# Altium schematic symbol library Mount_Antenna.SchLib: 21 symbols
Pins are listed as number, name and electrical type; pins without a type are passive.

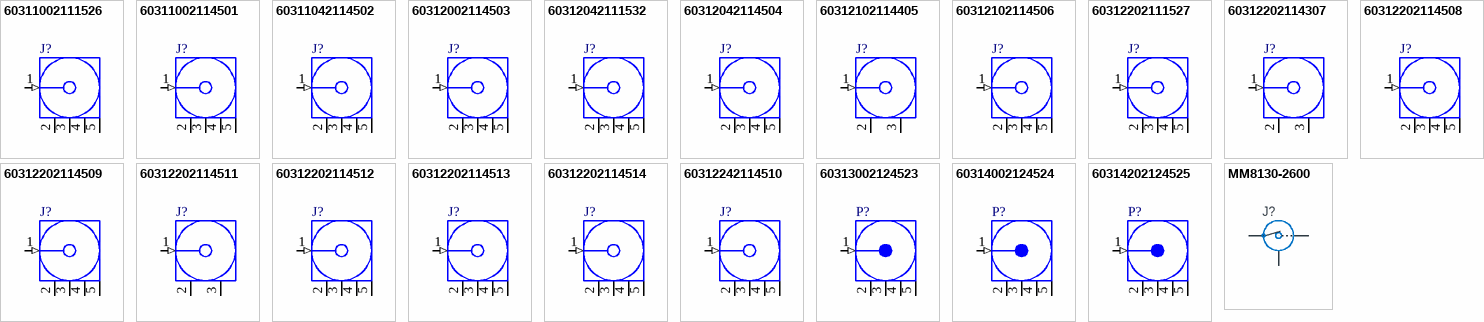
[diagram p0: symbols 60311002111526 to MM8130-2600]

## 60311002111526
designator J?
WR-SMA Connector, PCB THT Jack, Right Angle; Manufacturer Part Number: 60311002111526; Manufacturer: Wurth Elektronik; Impedance: 50Ohm; Connector Type: SMA; Frequency Range: DC~6GHz; Interface: MIL-STD-348; Center Contact Diameter: 1.27mm; Component Status: Active; ComponentLink1Description: Manufacturer; ComponentLink1URL: http://www.we-online.de; ComponentLink2Description: Datasheet; ComponentLink2URL: https://www.we-online.com/catalog/datasheet/60311002111526.pdf; Published Date: June 2020; Operating Temperature: -65 to +165degC; Gender: Jack; Packaging: Tray; Mounting Technology: THT; Orientation Type: Right Angle; Component Class: Connectors; Supplier 1: Mouser; Supplier 2: Digi-Key; Supplier 1 SN: N/A; Supplier 1 URL: N/A; Supplier 2 SN: N/A; Supplier 2 URL: N/A
footprint 60311002111526
pins: 1 Signal (in) "Signal Pin", 2 GND (power), 3 GND (power), 4 GND (power), 5 GND (power)

## 60311002114501
designator J?
WR-SMA Connector, PCB THT Jack, Right Angle, with Anti-Torque Thread; Manufacturer Part Number: 60311002114501; Manufacturer: Wurth Elektronik; Impedance: 50Ohm; Connector Type: SMA; Frequency Range: DC~18GHz; Interface: MIL-STD-348; Center Contact Diameter: 1.27mm; Component Status: Active; ComponentLink1Description: Manufacturer; ComponentLink1URL: http://www.we-online.de; ComponentLink2Description: Datasheet; ComponentLink2URL: https://www.we-online.com/catalog/datasheet/60311002114501.pdf; Published Date: June 2020; Operating Temperature: -65 to +165degC; Gender: Jack; Packaging: Tray; Mounting Technology: THT; Orientation Type: Right Angle; Component Class: Connectors; Supplier 1: Mouser; Supplier 1 URL: https://www.mouser.vn/ProductDetail/Wurth-Elektronik/60311002114501?qs=3jNSNtuqJTKCM9Xl9ihRQg%3D%3D; Supplier 2: Digi-Key; Supplier 2 URL: https://www.digikey.com/en/products/detail/johanson-technology-inc/2450ad18a6050002e/16034408; Supplier 1 SN: 710-60311002114501; Supplier 2 SN: 732-13833-ND
footprint 60311002114501
pins: 1 Signal (in) "Signal Pin", 2 GND (power), 3 GND (power), 4 GND (power), 5 GND (power)

## 60311042114502
designator J?
WR-SMA Connector, PCB THT Jack, Right Angle, Rear Mount Bulkhead; Manufacturer Part Number: 60311042114502; Manufacturer: Wurth Elektronik; Impedance: 50Ohm; Connector Type: SMA; Frequency Range: DC~12.4GHz; Interface: MIL-STD-348; Center Contact Diameter: 1.27mm; Component Status: Active; ComponentLink1Description: Manufacturer; ComponentLink1URL: http://www.we-online.de; ComponentLink2Description: Datasheet; ComponentLink2URL: https://www.we-online.com/catalog/datasheet/60311042114502.pdf; Published Date: June 2020; Operating Temperature: -65 to +165degC; Gender: Jack; Packaging: Tray; Mounting Technology: THT; Orientation Type: Right Angle; Component Class: Connectors; Supplier 1: Mouser; Supplier 1 URL: https://www.mouser.vn/ProductDetail/Wurth-Elektronik/60311042114502?qs=3jNSNtuqJTKkU1QzLc%2FggQ%3D%3D; Supplier 2: Digi-Key; Supplier 2 URL: https://www.digikey.com/en/products/detail/w%C3%BCrth-elektronik/60311042114502/10106988; Supplier 1 SN: 710-60311042114502; Supplier 2 SN: 732-13834-ND
footprint 60311042114502
pins: 1 Signal (in) "Signal Pin", 2 GND (power), 3 GND (power), 4 GND (power), 5 GND (power)

## 60312002114503
designator J?
WR-SMA Connector, PCB THT Jack, Straight; Manufacturer Part Number: 60312002114503; Manufacturer: Wurth Elektronik; Impedance: 50Ohm; Connector Type: SMA; Frequency Range: DC~18GHz; Interface: MIL-STD-348; Center Contact Diameter: 1.27mm; Component Status: Active; ComponentLink1Description: Manufacturer; ComponentLink1URL: http://www.we-online.de; ComponentLink2Description: Datasheet; ComponentLink2URL: https://www.we-online.com/catalog/datasheet/60312002114503.pdf; Published Date: June 2020; Operating Temperature: -65 to +165degC; Gender: Jack; Packaging: Tray; Mounting Technology: THT; Orientation Type: Straight; Component Class: Connectors; Supplier 1: Mouser; Supplier 1 URL: https://www.mouser.vn/ProductDetail/Wurth-Elektronik/60312002114503?qs=3jNSNtuqJTL%2FGpZA1FAOxw%3D%3D; Supplier 2: Digi-Key; Supplier 2 URL: https://www.digikey.com/en/products/detail/w%C3%BCrth-elektronik/60312002114503/10106989; Supplier 1 SN: 710-60312002114503; Supplier 2 SN: 732-13835-ND
footprint 60312002114503
pins: 1 Signal (in) "Signal Pin", 2 GND (power), 3 GND (power), 4 GND (power), 5 GND (power)

## 60312042111532
designator J?
WR-SMA Connector, PCB THT Jack, Straight, Rear Mount Bulkhead 11mm; Manufacturer Part Number: 60312042111532; Manufacturer: Wurth Elektronik; Impedance: 50Ohm; Connector Type: SMA; Frequency Range: DC~6GHz; Interface: MIL-STD-348; Center Contact Diameter: 1.27mm; Component Status: Active; ComponentLink1Description: Manufacturer; ComponentLink1URL: http://www.we-online.de; ComponentLink2Description: Datasheet; ComponentLink2URL: https://www.we-online.com/catalog/datasheet/60312042111532.pdf; Published Date: June 2020; Operating Temperature: -65 to +165degC; Gender: Jack; Packaging: Tray; Mounting Technology: THT; Orientation Type: Straight; Component Class: Connectors; Supplier 1: Mouser; Supplier 1 URL: https://www.mouser.vn/ProductDetail/Wurth-Elektronik/60312042111532?qs=sPbYRqrBIVm%2Fn3Wj9RlOYA%3D%3D; Supplier 2: Digi-Key; Supplier 2 URL: https://www.digikey.com/en/products/detail/w%C3%BCrth-elektronik/60312042111532/12726543; Supplier 1 SN: 710-60312042111532; Supplier 2 SN: 732-60312042111532-ND
footprint 60312042111532 (Footprint not found)
pins: 1 Signal (in) "Signal Pin", 2 GND (power), 3 GND (power), 4 GND (power), 5 GND (power)

## 60312042114504
designator J?
WR-SMA Connector, PCB THT Jack, Straight, Rear Mount Bulkhead; Manufacturer Part Number: 60312042114504; Manufacturer: Wurth Elektronik; Impedance: 50Ohm; Connector Type: SMA; Frequency Range: DC~18GHz; Interface: MIL-STD-348; Center Contact Diameter: 1.27mm; Component Status: Active; ComponentLink1Description: Manufacturer; ComponentLink1URL: http://www.we-online.de; ComponentLink2Description: Datasheet; ComponentLink2URL: https://www.we-online.com/catalog/datasheet/60312042114504.pdf; Published Date: June 2020; Operating Temperature: -65 to +165degC; Gender: Jack; Packaging: Tray; Mounting Technology: THT; Orientation Type: Straight; Component Class: Connectors; Supplier 1: Mouser; Supplier 1 URL: https://www.mouser.vn/ProductDetail/Wurth-Elektronik/60312042114504?qs=3jNSNtuqJTJQUrgN5kAX4g%3D%3D; Supplier 2: Digi-Key; Supplier 2 URL: https://www.digikey.com/en/products/detail/w%C3%BCrth-elektronik/60312042114504/10106990; Supplier 1 SN: 710-60312042114504; Supplier 2 SN: 732-13836-ND
footprint 60312042114504
pins: 1 Signal (in) "Signal Pin", 2 GND (power), 3 GND (power), 4 GND (power), 5 GND (power)

## 60312102114405
designator J?
WR-SMA Connector, PCB SMT Jack, Straight; Manufacturer Part Number: 60312102114405; Manufacturer: Wurth Elektronik; Impedance: 50Ohm; Connector Type: SMA; Frequency Range: DC~18GHz; Interface: MIL-STD-348; Center Contact Diameter: 1.27mm; Component Status: Active; ComponentLink1Description: Manufacturer; ComponentLink1URL: http://www.we-online.de; ComponentLink2Description: Datasheet; ComponentLink2URL: https://www.we-online.com/catalog/datasheet/60312102114405.pdf; Published Date: June 2020; Operating Temperature: -65 to +165degC; Gender: Jack; Packaging: Tape and Reel; Mounting Technology: SMT; Orientation Type: Straight; Component Class: Connectors; Supplier 1: Mouser; Supplier 1 URL: https://www.mouser.vn/ProductDetail/Wurth-Elektronik/60312102114405?qs=3jNSNtuqJTIiYSFyz6jY1Q%3D%3D; Supplier 2: Digi-Key; Supplier 2 URL: https://www.digikey.com/en/products/detail/w%C3%BCrth-elektronik/60312102114405/10106991; Supplier 1 SN: 710-60312102114405; Supplier 2 SN: 732-13837-2-ND
footprint 60312102114405
pins: 1 Signal (in) "Signal Pin", 2 GND (power), 3 GND (power)

## 60312102114506
designator J?
WR-SMA Connector, PCB THR Jack, Straight; Manufacturer Part Number: 60312102114506; Manufacturer: Wurth Elektronik; Impedance: 50Ohm; Connector Type: SMA; Frequency Range: DC~18GHz; Interface: MIL-STD-348; Center Contact Diameter: 1.27mm; Component Status: Active; ComponentLink1Description: Manufacturer; ComponentLink1URL: http://www.we-online.de; ComponentLink2Description: Datasheet; ComponentLink2URL: https://www.we-online.com/catalog/datasheet/60312102114506.pdf; Published Date: June 2020; Operating Temperature: -65 to +165degC; Gender: Jack; Packaging: Tray; Mounting Technology: THR; Orientation Type: Straight; Component Class: Connectors; Supplier 1: Mouser; Supplier 1 URL: https://www.mouser.vn/ProductDetail/Wurth-Elektronik/60312102114506?qs=3jNSNtuqJTLU48W1WhewmQ%3D%3D; Supplier 2: Digi-Key; Supplier 2 URL: https://www.digikey.com/en/products/detail/w%C3%BCrth-elektronik/60312102114506/10106992; Supplier 1 SN: 710-60312102114506; Supplier 2 SN: 732-13838-ND
footprint 60312102114506
pins: 1 Signal (in) "Signal Pin", 2 GND (power), 3 GND (power), 4 GND (power), 5 GND (power)

## 60312202111527
designator J?
WR-SMA Connector, PCB End Launch Jack, Straight, 6.35SQ Flange Round Post for PCB 1.6mm; Manufacturer Part Number: 60312202111527; Manufacturer: Wurth Elektronik; Impedance: 50Ohm; Connector Type: SMA; Frequency Range: DC~18GHz; Interface: MIL-STD-348; Center Contact Diameter: 0.76mm; Component Status: Active; ComponentLink1Description: Manufacturer; ComponentLink1URL: http://www.we-online.de; ComponentLink2Description: Datasheet; ComponentLink2URL: https://www.we-online.com/catalog/datasheet/60312202111527.pdf; Published Date: June 2020; Operating Temperature: -65 to +165degC; Gender: Jack; Packaging: Tray; Mounting Technology: End Launch; Orientation Type: Straight; Component Class: Connectors; Supplier 1: Mouser; Supplier 1 URL: N/A; Supplier 2: Digi-Key; Supplier 2 URL: N/A; Supplier 1 SN: N/A; Supplier 2 SN: N/A
footprint 60312202111527
pins: 1 Signal (in) "Signal Pin", 2 GND (power), 3 GND (power), 4 GND (power), 5 GND (power)

## 60312202114307
designator J?
WR-SMA Connector, PCB End Launch Jack, Straight, Edge Card for PCB 1.6mm Max.; Manufacturer Part Number: 60312202114307; Manufacturer: Wurth Elektronik; Impedance: 50Ohm; Connector Type: SMA; Frequency Range: DC~18GHz; Interface: MIL-STD-348; Center Contact Diameter: 0.76mm; Component Status: Active; ComponentLink1Description: Manufacturer; ComponentLink1URL: http://www.we-online.de; ComponentLink2Description: Datasheet; ComponentLink2URL: https://www.we-online.com/catalog/datasheet/60312202114307.pdf; Published Date: June 2020; Operating Temperature: -65 to +165degC; Gender: Jack; Packaging: Tape and Reel; Mounting Technology: End Launch; Orientation Type: Straight; Component Class: Connectors; Supplier 1: Mouser; Supplier 1 URL: https://www.mouser.vn/ProductDetail/Wurth-Elektronik/60312202114307?qs=3jNSNtuqJTLA%252Byi%2FUsRU8Q%3D%3D; Supplier 2: Digi-Key; Supplier 2 URL: https://www.digikey.com/en/products/detail/w%C3%BCrth-elektronik/60312202114307/10106993; Supplier 1 SN: 710-60312202114307; Supplier 2 SN: 732-13839-2-ND
footprint 60312202114307
pins: 1 Signal (in) "Signal Pin", 2 GND (power), 3 GND (power)

## 60312202114508
designator J?
WR-SMA Connector, PCB End Launch Jack, Straight, 6.35SQ Flange Round Post for PCB 1.1mm; Manufacturer Part Number: 60312202114508; Manufacturer: Wurth Elektronik; Impedance: 50Ohm; Connector Type: SMA; Frequency Range: DC~18GHz; Interface: MIL-STD-348; Center Contact Diameter: 0.76mm; Component Status: Active; ComponentLink1Description: Manufacturer; ComponentLink1URL: http://www.we-online.de; ComponentLink2Description: Datasheet; ComponentLink2URL: https://www.we-online.com/catalog/datasheet/60312202114508.pdf; Published Date: June 2020; Operating Temperature: -65 to +165degC; Gender: Jack; Packaging: Tray; Mounting Technology: End Launch; Orientation Type: Straight; Component Class: Connectors; Supplier 1: Mouser; Supplier 1 URL: https://www.mouser.vn/ProductDetail/Wurth-Elektronik/60312202114508?qs=3jNSNtuqJTKmTRvdRk2WHQ%3D%3D; Supplier 2: Digi-Key; Supplier 2 URL: https://www.digikey.com/en/products/detail/w%C3%BCrth-elektronik/60312202114508/10106994; Supplier 1 SN: 710-60312202114508; Supplier 2 SN: 732-13840-ND
footprint 60312202114508
pins: 1 Signal (in) "Signal Pin", 2 GND (power), 3 GND (power), 4 GND (power), 5 GND (power)

## 60312202114509
designator J?
WR-SMA Connector, PCB End Launch Jack, Straight, Round Post for PCB 1.6mm; Manufacturer Part Number: 60312202114509; Manufacturer: Wurth Elektronik; Impedance: 50Ohm; Connector Type: SMA; Frequency Range: DC~18GHz; Interface: MIL-STD-348; Center Contact Diameter: 0.76mm; Component Status: Active; ComponentLink1Description: Manufacturer; ComponentLink1URL: http://www.we-online.de; ComponentLink2Description: Datasheet; ComponentLink2URL: https://www.we-online.com/catalog/datasheet/60312202114509.pdf; Published Date: June 2020; Operating Temperature: -65 to +165degC; Gender: Jack; Packaging: Tray; Mounting Technology: End Launch; Orientation Type: Straight; Component Class: Connectors; Supplier 1: Mouser; Supplier 1 URL: https://www.mouser.vn/ProductDetail/Wurth-Elektronik/60312202114509?qs=3jNSNtuqJTJz2JWKi7lcpA%3D%3D; Supplier 2: Digi-Key; Supplier 2 URL: https://www.digikey.com/en/products/detail/w%C3%BCrth-elektronik/60312202114509/10106995; Supplier 1 SN: 710-60312202114509; Supplier 2 SN: 732-13841-ND
footprint 60312202114509
pins: 1 Signal (in) "Signal Pin", 2 GND (power), 3 GND (power), 4 GND (power), 5 GND (power)

## 60312202114511
designator J?
WR-SMA Connector, PCB End Launch Jack, Straight, Flat Tab with THT Grounding Pins for PCB 2.8mm Max.; Manufacturer Part Number: 60312202114511; Manufacturer: Wurth Elektronik; Impedance: 50Ohm; Connector Type: SMA; Frequency Range: DC~18GHz; Interface: MIL-STD-348; Center Contact Diameter: 0.51 WIDE x 0.25 THK; Component Status: Active; ComponentLink1Description: Manufacturer; ComponentLink1URL: http://www.we-online.de; ComponentLink2Description: Datasheet; ComponentLink2URL: https://www.we-online.com/catalog/datasheet/60312202114511.pdf; Published Date: June 2020; Operating Temperature: -65 to +165degC; Gender: Jack; Packaging: Tray; Mounting Technology: End Launch; Orientation Type: Straight; Component Class: Connectors; Supplier 1: Mouser; Supplier 1 URL: https://www.mouser.vn/ProductDetail/Wurth-Elektronik/60312202114511?qs=3jNSNtuqJTLKiSO7iJqkqg%3D%3D; Supplier 2: Digi-Key; Supplier 2 URL: https://www.digikey.com/en/products/detail/w%C3%BCrth-elektronik/60312202114511/10106996; Supplier 1 SN: 710-60312202114511; Supplier 2 SN: 732-13842-ND
footprint 60312202114511
pins: 1 Signal (in) "Signal Pin", 2 GND (power), 3 GND (power)

## 60312202114512
designator J?
WR-SMA Connector, PCB End Launch Jack, Straight, Flat Tab for 1.1mm; Manufacturer Part Number: 60312202114512; Manufacturer: Wurth Elektronik; Impedance: 50Ohm; Connector Type: SMA; Frequency Range: DC~18GHz; Interface: MIL-STD-348; Center Contact Diameter: 0.51 WIDE x 0.25 THK; Component Status: Active; ComponentLink1Description: Manufacturer; ComponentLink1URL: http://www.we-online.de; ComponentLink2Description: Datasheet; ComponentLink2URL: https://www.we-online.com/catalog/datasheet/60312202114512.pdf; Published Date: June 2020; Operating Temperature: -65 to +165degC; Gender: Jack; Packaging: Tray; Mounting Technology: End Launch; Orientation Type: Straight; Component Class: Connectors; Supplier 1: Mouser; Supplier 1 URL: https://www.mouser.vn/ProductDetail/Wurth-Elektronik/60312202114512?qs=3jNSNtuqJTLnrLNuFy3roA%3D%3D; Supplier 2: Digi-Key; Supplier 2 URL: https://www.digikey.com/en/products/detail/w%C3%BCrth-elektronik/60312202114512/10106997; Supplier 1 SN: 710-60312202114512; Supplier 2 SN: 732-13843-ND
footprint 60312202114512
pins: 1 Signal (in) "Signal Pin", 2 GND (power), 3 GND (power), 4 GND (power), 5 GND (power)

## 60312202114513
designator J?
WR-SMA Connector, PCB End Launch Jack, Straight, 6.35SQ Flange Flat Tab 1.6mm; Manufacturer Part Number: 60312202114513; Manufacturer: Wurth Elektronik; Impedance: 50Ohm; Connector Type: SMA; Frequency Range: DC~18GHz; Interface: MIL-STD-348; Center Contact Diameter: 0.51 WIDE x 0.25 THK; Component Status: Active; ComponentLink1Description: Manufacturer; ComponentLink1URL: http://www.we-online.de; ComponentLink2Description: Datasheet; ComponentLink2URL: https://www.we-online.com/catalog/datasheet/60312202114513.pdf; Published Date: June 2020; Operating Temperature: -65 to +165degC; Gender: Jack; Packaging: Tray; Mounting Technology: End Launch; Orientation Type: Straight; Component Class: Connectors; Supplier 1: Mouser; Supplier 1 URL: https://www.mouser.vn/ProductDetail/Wurth-Elektronik/60312202114513?qs=3jNSNtuqJTItJ50L1VXaVQ%3D%3D; Supplier 2: Digi-Key; Supplier 2 URL: https://www.digikey.com/en/products/detail/w%C3%BCrth-elektronik/60312202114513/10106998; Supplier 1 SN: 710-60312202114513; Supplier 2 SN: 732-13844-ND
footprint 60312202114513
pins: 1 Signal (in) "Signal Pin", 2 GND (power), 3 GND (power), 4 GND (power), 5 GND (power)

## 60312202114514
designator J?
WR-SMA Connector, PCB End Launch Jack, Straight, Flat Tab for PCB 1.6mm; Manufacturer Part Number: 60312202114514; Manufacturer: Wurth Elektronik; Impedance: 50Ohm; Connector Type: SMA; Frequency Range: DC~18GHz; Interface: MIL-STD-348; Center Contact Diameter: 0.51 WIDE x 0.25 THK; Component Status: Active; ComponentLink1Description: Manufacturer; ComponentLink1URL: http://www.we-online.de; ComponentLink2Description: Datasheet; ComponentLink2URL: https://www.we-online.com/catalog/datasheet/60312202114514.pdf; Published Date: June 2020; Operating Temperature: -65 to +165degC; Gender: Jack; Packaging: Tray; Mounting Technology: End Launch; Orientation Type: Straight; Component Class: Connectors; Supplier 1: Mouser; Supplier 1 URL: https://www.mouser.vn/ProductDetail/Wurth-Elektronik/60312202114514?qs=3jNSNtuqJTJHxrd7h6%252BqaQ%3D%3D; Supplier 2: Digi-Key; Supplier 2 URL: https://www.digikey.com/en/products/detail/w%C3%BCrth-elektronik/60312202114514/10106999; Supplier 1 SN: 710-60312202114514; Supplier 2 SN: 732-13845-ND
footprint 60312202114514
pins: 1 Signal (in) "Signal Pin", 2 GND (power), 3 GND (power), 4 GND (power), 5 GND (power)

## 60312242114510
designator J?
WR-SMA Connector, PCB End Launch Jack, Straight, Round Post Rear Mount Bulkhead for PCB 1.6mm; Manufacturer Part Number: 60312242114510; Manufacturer: Wurth Elektronik; Impedance: 50Ohm; Connector Type: SMA; Frequency Range: DC~18GHz; Interface: MIL-STD-348; Center Contact Diameter: 0.76mm; Component Status: Active; ComponentLink1Description: Manufacturer; ComponentLink1URL: http://www.we-online.de; ComponentLink2Description: Datasheet; ComponentLink2URL: https://www.we-online.com/catalog/datasheet/60312242114510.pdf; Published Date: June 2020; Operating Temperature: -65 to +165degC; Gender: Jack; Packaging: Tray; Mounting Technology: End Launch; Orientation Type: Straight; Component Class: Connectors; Supplier 1: Mouser; Supplier 1 URL: https://www.mouser.vn/ProductDetail/Wurth-Elektronik/60312242114510?qs=3jNSNtuqJTJ1FXKuzi%2FwCw%3D%3D; Supplier 2: Digi-Key; Supplier 2 URL: https://www.digikey.com/en/products/detail/w%C3%BCrth-elektronik/60312242114510/10107000; Supplier 1 SN: 710-60312242114510; Supplier 2 SN: 732-13846-ND
footprint 60312242114510
pins: 1 Signal (in) "Signal Pin", 2 GND (power), 3 GND (power), 4 GND (power), 5 GND (power)

## 60313002124523
designator P?
WR-SMA Connector, PCB THT Plug, Right Angle; Manufacturer Part Number: 60313002124523; Manufacturer: Wurth Elektronik; Impedance: 50Ohm; Connector Type: SMA; Frequency Range: DC~18GHz; Interface: MIL-STD-348; Center Contact Diameter: 1.27mm; Component Status: Active; ComponentLink1Description: Manufacturer; ComponentLink1URL: http://www.we-online.de; ComponentLink2Description: Datasheet; ComponentLink2URL: https://www.we-online.com/catalog/datasheet/60313002124523.pdf; Published Date: June 2020; Operating Temperature: -65 to +165degC; Gender: Plug; Packaging: Tray; Mounting Technology: THT; Orientation Type: Right Angle; Component Class: Connectors; Supplier 1: Mouser; Supplier 1 URL: https://www.mouser.vn/ProductDetail/Wurth-Elektronik/60313002124523?qs=3jNSNtuqJTINgPMS4eFlrw%3D%3D; Supplier 2: Digi-Key; Supplier 2 URL: https://www.digikey.com/en/products/detail/w%C3%BCrth-elektronik/60313002124523/10107009; Supplier 1 SN: 710-60313002124523; Supplier 2 SN: 732-13855-ND
footprint 60313002124523
pins: 1 Signal (in) "Signal Pin", 2 GND (power), 3 GND (power), 4 GND (power), 5 GND (power)

## 60314002124524
designator P?
WR-SMA Connector, PCB THT Plug, Straight; Manufacturer Part Number: 60314002124524; Manufacturer: Wurth Elektronik; Impedance: 50Ohm; Connector Type: SMA; Frequency Range: DC~18GHz; Interface: MIL-STD-348; Center Contact Diameter: 1.27mm; Component Status: Active; ComponentLink1Description: Manufacturer; ComponentLink1URL: http://www.we-online.de; ComponentLink2Description: Datasheet; ComponentLink2URL: https://www.we-online.com/catalog/datasheet/60314002124524.pdf; Published Date: June 2020; Operating Temperature: -65 to +165degC; Gender: Plug; Packaging: Tray; Mounting Technology: THT; Orientation Type: Straight; Component Class: Connectors; Supplier 1: Mouser; Supplier 1 URL: https://www.mouser.vn/ProductDetail/Wurth-Elektronik/60314002124524?qs=3jNSNtuqJTK4rqBFL0m6Ig%3D%3D; Supplier 2: Digi-Key; Supplier 2 URL: https://www.digikey.com/en/products/detail/w%C3%BCrth-elektronik/60314002124524/10107010; Supplier 1 SN: 710-60314002124524; Supplier 2 SN: 732-13856-ND
footprint 60314002124524
pins: 1 Signal (in) "Signal Pin", 2 GND (power), 3 GND (power), 4 GND (power), 5 GND (power)

## 60314202124525
designator P?
WR-SMA Connector, PCB End Launch Plug, Straight, Round Post for PCB 1.6mm; Manufacturer Part Number: 60314202124525; Manufacturer: Wurth Elektronik; Impedance: 50Ohm; Connector Type: SMA; Frequency Range: DC~18GHz; Interface: MIL-STD-348; Center Contact Diameter: 0.76mm; Component Status: Active; ComponentLink1Description: Manufacturer; ComponentLink1URL: http://www.we-online.de; ComponentLink2Description: Datasheet; ComponentLink2URL: https://www.we-online.com/catalog/datasheet/60314202124525.pdf; Published Date: June 2020; Operating Temperature: -65 to +165degC; Gender: Plug; Packaging: Tray; Mounting Technology: End Launch; Orientation Type: Straight; Component Class: Connectors; Supplier 1: Mouser; Supplier 1 URL: https://www.mouser.vn/ProductDetail/Wurth-Elektronik/60314202124525?qs=3jNSNtuqJTJbZgZs6irRew%3D%3D; Supplier 2: Digi-Key; Supplier 2 URL: https://www.digikey.com/en/products/detail/w%C3%BCrth-elektronik/60314202124525/10107011; Supplier 1 SN: 710-60314202124525; Supplier 2 SN: 732-13857-ND
footprint 60314202124525
pins: 1 Signal (in) "Signal Pin", 2 GND (power), 3 GND (power), 4 GND (power), 5 GND (power)

## MM8130-2600
designator J?
Coaxial Connector with Switch; Manufacturer: Murata; Manufacturer Part Number: MM8130-2600; Value: MM8130-2600; Component Status: Active; Frequency Range: DC~6GHz; Impedance: 50Ohm; ComponentLink1URL: N/A; ComponentLink1Description: Datasheet; ComponentLink2URL: N/A; ComponentLink2Description: Supplier link; Supplier 1: Mouser; Supplier 1 SN: 81-MM8130-2600RA2; Supplier 2: Digi-Key; Supplier 2 SN: 490-8450-2-ND; Component Class: Connectors; Supplier 1 URL: https://www.mouser.vn/ProductDetail/Murata-Electronics/MM8130-2600RA2?qs=pwh76yelNxAj%2FSz0%2FLo03A%3D%3D; Supplier 2 URL: https://www.digikey.com/en/products/detail/murata-electronics/mm8130-2600rb8/3863191; Center Contact Diameter: N/A; Connector Type: N/A; Gender: N/A; Interface: N/A; Mounting Technology: N/A; Operating Temperature: N/A; Orientation Type: N/A; Packaging: N/A; Published Date: N/A
footprint COAXIAL-SWF
pins: 1 IN, 2 Shield, 3 OUT